# EAGLE library part RFM69W_69HW (library hoperf)
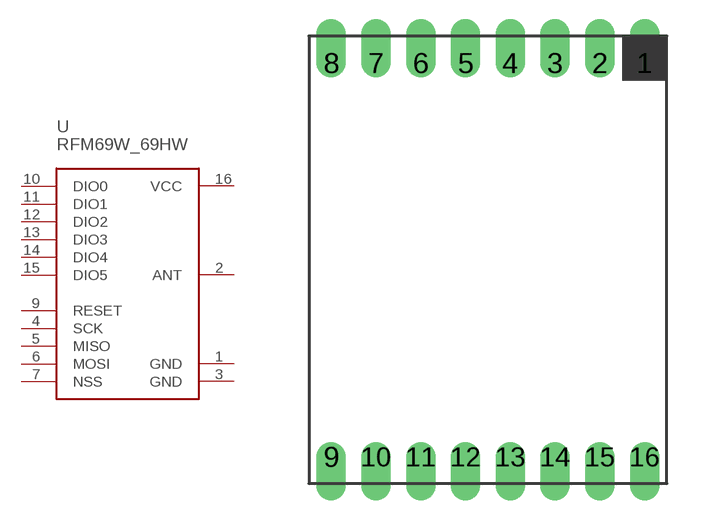
[diagram p3: symbol with the pads of MODULE_20X12_16PIN; footprint MODULE_20X12_16PIN]

Designator prefix -

## RFM69W_69HW  [MODULE_20X12_16PIN]
1  GND
2  ANT
3  GND
4  SCK
5  MISO
6  MOSI
7  NSS
9  RESET
10  DIO0
11  DIO1
12  DIO2
13  DIO3
14  DIO4
15  DIO5
16  VCC

## Footprint MODULE_20X12_16PIN (pad centres in mm)
drill 0.8 offset: 1 7,8.8; 2 5,8.8; 3 3,8.8; 4 1,8.8; 5 -1,8.8; 6 -3,8.8; 7 -5,8.8; 8 -7,8.8; 9 -7,-8.8; 10 -5,-8.8; 11 -3,-8.8; 12 -1,-8.8; 13 1,-8.8; 14 3,-8.8; 15 5,-8.8; 16 7,-8.8